# Altium integrated library RSX_Connectors.IntLib: 12 symbols
Pins are listed as number, name and electrical type; pins without a type are passive.

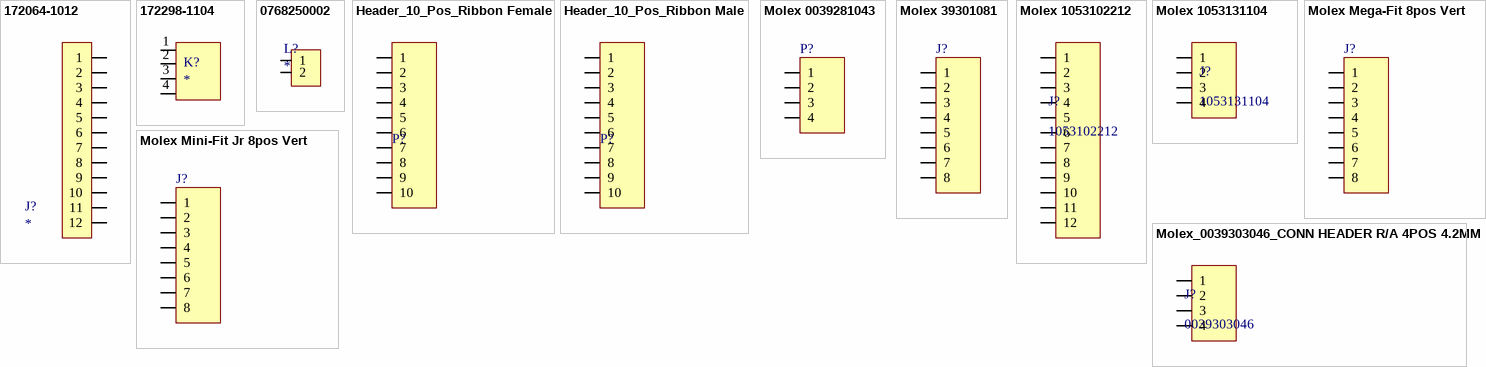
[diagram p0: symbols 172064-1012 to Molex_0039303046_CONN HEADER R/A 4POS 4.2MM]

## 172064-1012
designator J?
Mega-Fit, 12 pos 2 row, R/A; Manufacturer 1: Molex Waldom; Manufacturer Part Number 1: 172064-1012; Number of Positions: 12; Connector Type: Male Pin; Pitch: 5.7mm; Row Spacing: 0.224inch; Glow Wire Compliant: Compliant; Supplier 1: Digi-Key; Supplier Part Number 1: WM11214-ND; Stock 1: 343; Pricing 1: 1=16.34000, 10=14.85400, 100=12.62590, 500=10.76916, 1000=9.87791 (USD); RoHS: Yes; Mount: Through Hole; Contact Plating: Gold; Color: Black; Min Operating Temperature: -40°C; Max Operating Temperature: 120°C; Packaging: Tray; Number of Rows: 2; Termination: Solder; Fastening Type: Ramp; Number of Contacts: 12; Orientation: Right Angle; Number of Circuits: 12; Halogen Free: Low Halogen; ComponentLink1URL: http://www.molex.com/pdm_docs/ps/PS-76823-100.pdf?src-supplier=Digi-Key; ComponentLink1Description: http://www.molex.com/pdm_docs/ps/PS-76823-100.pdf?src-supplier=Digi-Key; ComponentLink2URL: http://www.molex.com/pdm_docs/sd/1720641004_sd.pdf?src-supplier=Avnet; ComponentLink2Description: http://www.molex.com/pdm_docs/sd/1720641004_sd.pdf?src-supplier=Avnet; Category: Connectors
footprint 172064-1012 (Connector Header Through Hole, Right Angle 12 position 0.224" (5.70mm))
pins: 1, 2, 3, 4, 5, 6, 7, 8, 9, 10, 11, 12

## 172298-1104
designator K?
Ultra-Fit, 4 pos 2 row; Manufacturer 1: Molex; Manufacturer Part Number 1: 172298-1104; Number of Positions: 4; Gender: Male; Connector Type: Male Pin; Pitch: 0.138inch; Row Spacing: 0.181inch; Supplier 1: Digi-Key; Supplier Part Number 1: WM11578-ND; Stock 1: 5880; Pricing 1: 1=0.72000, 10=0.67600, 100=0.51840, 500=0.45080, 1000=0.37191, 5000=0.32683, 10000=0.30429 (USD); Mount: Through Hole; Number of Pins: 4; Contact Plating: Tin; Color: Black; Contact Material: Copper Alloy; Packaging: Tray; Number of Rows: 2; Termination: Kinked Pin; Fastening Type: Latch; Number of Circuits: 4; Orientation: Vertical; Number of Contacts: 4; REACH SVHC: Unknown; ComponentLink1URL: http://www.alliedelec.com/images/products/datasheets/bm/MOLEX/70617668.pdf?src-supplier=Allied+Electronics; ComponentLink1Description: http://www.alliedelec.com/images/products/datasheets/bm/MOLEX/70617668.pdf?src-supplier=Allied+Electronics; ComponentLink2URL: https://www.molex.com/pdm_docs/sd/1722981104_sd.pdf?src-supplier=Digi-Key; ComponentLink2Description: https://www.molex.com/pdm_docs/sd/1722981104_sd.pdf?src-supplier=Digi-Key; ComponentLink3URL: http://www.farnell.com/datasheets/1944206.pdf?src-supplier=Element14; ComponentLink3Description: http://www.farnell.com/datasheets/1944206.pdf?src-supplier=Element14; ComponentLink4URL: http://www.farnell.com/datasheets/1955765.pdf?src-supplier=Element14; ComponentLink4Description: http://www.farnell.com/datasheets/1955765.pdf?src-supplier=Element14; ComponentLink5URL: http://datasheet.octopart.com/1722981104-Molex-datasheet-137329411.pdf?src-supplier=Sager+Electronics; ComponentLink5Description: http://datasheet.octopart.com/1722981104-Molex-datasheet-137329411.pdf?src-supplier=Sager+Electronics; ComponentLink6URL: http://datasheet.octopart.com/172298-1104-Molex-datasheet-43880098.pdf?src-supplier=Element14; ComponentLink6Description: http://datasheet.octopart.com/172298-1104-Molex-datasheet-43880098.pdf?src-supplier=Element14; ComponentLink7URL: http://datasheet.octopart.com/172298-1104-Molex-datasheet-77519390.pdf?src-supplier=Farnell; ComponentLink7Description: http://datasheet.octopart.com/172298-1104-Molex-datasheet-77519390.pdf?src-supplier=Farnell; ComponentLink8URL: http://datasheet.octopart.com/172298-1104-Molex-datasheet-46739486.pdf?src-supplier=Element14; ComponentLink8Description: http://datasheet.octopart.com/172298-1104-Molex-datasheet-46739486.pdf?src-supplier=Element14; ComponentLink9URL: http://datasheet.octopart.com/172298-1104-Molex-datasheet-46739490.pdf?src-supplier=Farnell; ComponentLink9Description: http://datasheet.octopart.com/172298-1104-Molex-datasheet-46739490.pdf?src-supplier=Farnell; ComponentLink10URL: http://datasheet.octopart.com/172298-1104-Molex-datasheet-46721521.pdf?src-supplier=Allied+Electronics; ComponentLink10Description: http://datasheet.octopart.com/172298-1104-Molex-datasheet-46721521.pdf?src-supplier=Allied+Electronics; ComponentLink11URL: http://datasheet.octopart.com/172298-1104-Molex-datasheet-120142073.pdf?src-supplier=Allied+Electronics; ComponentLink11Description: http://datasheet.octopart.com/172298-1104-Molex-datasheet-120142073.pdf?src-supplier=Allied+Electronics; Category: Connectors
pins: 1, 2, 3, 4

## 0768250002
designator L?
Mega-Fit, 2 pos, R/A; Manufacturer 1: Molex; Manufacturer Part Number 1: 0768250002; Color: Black; Number of Positions: 2; Connector Type: Male Pin; Row Spacing: 0.224inch; Supplier 1: Digi-Key; Supplier Part Number 1: WM11969-ND; Stock 1: 2157; Pricing 1: 1=1.13000, 10=0.99300, 25=0.93440, 50=0.89560, 100=0.85670, 250=0.77880, 500=0.70092, 2016=0.58410, 4032=0.56463 (USD); RoHS: Yes; Mount: Through Hole; Contact Plating: Tin; Number of Rows: 2; Termination: Solder; Packaging: Tray; Fastening Type: Ramp; ComponentLink1URL: https://www.molex.com/pdm_docs/sd/768250002_sd.pdf?src-supplier=Digi-Key; ComponentLink1Description: https://www.molex.com/pdm_docs/sd/768250002_sd.pdf?src-supplier=Digi-Key; Category: Connectors
footprint MOLEX 0768250002
pins: 1, 2

## Header_10_Pos_Ribbon Female
designator P?, comment 3M_8510-4500PL  (value not drawn)
IDC Connector, 10 pos, Female
footprint 3M_8510-4500PL (10 Position Receptacle Connector  Through Hole)
pins: 1, 2, 3, 4, 5, 6, 7, 8, 9, 10

## Header_10_Pos_Ribbon Male
designator P?, comment 3M_2510-6002UB  (value not drawn)
IDC, 10 pos, Male
footprint 3M_2510-6002UB (Connector Header Through Hole 10 position 0.100" (2.54mm))
pins: 1, 2, 3, 4, 5, 6, 7, 8, 9, 10

## Molex 0039281043
designator P?, comment Mini-Fit Jr 4 Pos  (value not drawn)
Mini-Fit Jr. Header, Dual Row, Right-Angle, with Snap-in Plastic Peg PCB Lock, 6 Circuits, PA Polyamide Nylon 6/6 94V-2, 0.76µm Select Gold (Au) Plating
footprint MOLEX 0039281043 (Connector Header Through Hole 4 position 0.165" (4.20mm))
pins: 1, 2, 3, 4

## Molex 39301081
designator J?, comment Mini-Fit Jr 8 Pos RA  (value not drawn)
Mini-Fit Jr. Header, Dual Row, Right-Angle, with Snap-in Plastic Peg PCB Lock, 8 Circuits, PA Polyamide Nylon 6/6 94V-2, 0.76µm Select Gold (Au) Plating
footprint Molex 39301081
pins: 1, 2, 3, 4, 5, 6, 7, 8

## Molex 1053102212
designator J?, comment 1053102212
Nano-Fit, 12 pos 2 row
footprint Molex 1053102212 (Connector Header Through Hole 12 position 0.098" (2.50mm))
pins: 1, 2, 3, 4, 5, 6, 7, 8, 9, 10, 11, 12

## Molex 1053131104
designator J?, comment 1053131104
Nano-Fit, 4 pos, R/A
footprint Molex 1053131104 (Connector Header Through Hole, Right Angle 4 position 0.098" (2.50mm))
pins: 1, 2, 3, 4

## Molex Mega-Fit 8pos Vert
designator J?, comment Mini-Fit Jr 8 Pos RA  (value not drawn)
Mega-Fit, 8 pos 2 row
footprint MOLEX 172065-0208 (Connector Header Through Hole 8 position 0.224" (5.70mm))
pins: 1, 2, 3, 4, 5, 6, 7, 8

## Molex Mini-Fit Jr 8pos Vert
designator J?, comment 0039281083  (value not drawn)
Mini-Fit Jr, 8 pos 2 row
footprint Molex Mini-Fit Jr 0039281083
pins: 1, 2, 3, 4, 5, 6, 7, 8

## Molex_0039303046_CONN HEADER R/A 4POS 4.2MM
designator J?, comment 0039303046
Mini-Fit Jr, 4 pos, R/A
footprint Molex_0039303046_CONN HEADER R/A 4POS 4.2MM (Connector Header Through Hole, Right Angle 4 position 0.165" (4.20mm))
pins: 1, 2, 3, 4